# Altium footprint library Pi3.PcbLib: 2 footprints
Each footprint in its own frame and in the unit in brackets; x right, y up, seen from the top. Pads: shape width x height; smd on the part's side, far side on the other; paste and mask are expansions set on the pad; w line width, h text height; cw(c..) or ccw(c..) is an arc to the next point about the centre after c.
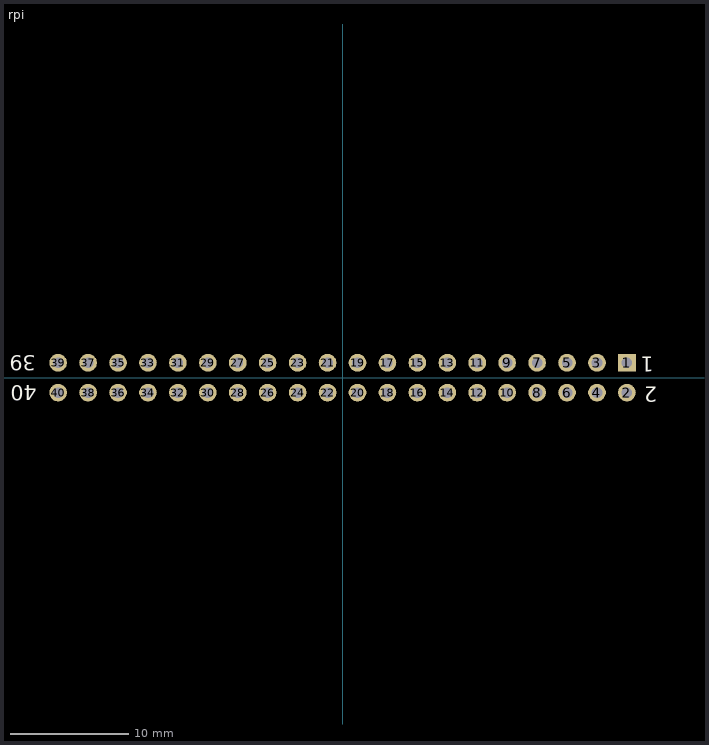
[diagram p0: the footprints below, top view; thin cyan lines are the x and y axes]

## PCBComponent_1 [mm]

## rpi [mm]
pads (40):
  rect 1.5x1.5 hole 0.9: 1(24.13,1.27)
  round 1.5 hole 0.9: 2(24.13,-1.27) 3(21.59,1.27) 4(21.59,-1.27) 5(19.05,1.27) 6(19.05,-1.27) 7(16.51,1.27) 8(16.51,-1.27) 9(13.97,1.27) 10(13.97,-1.27) 11(11.43,1.27) 12(11.43,-1.27) 13(8.89,1.27) 14(8.89,-1.27) 15(6.35,1.27) 16(6.35,-1.27) 17(3.81,1.27) 18(3.81,-1.27) 19(1.27,1.27) 20(1.27,-1.27) 21(-1.27,1.27) 22(-1.27,-1.27) 23(-3.81,1.27) 24(-3.81,-1.27) 25(-6.35,1.27) 26(-6.35,-1.27) 27(-8.89,1.27) 28(-8.89,-1.27) 29(-11.43,1.27) 30(-11.43,-1.27) 31(-13.97,1.27) 32(-13.97,-1.27) 33(-16.51,1.27) 34(-16.51,-1.27) 35(-19.05,1.27) 36(-19.05,-1.27) 37(-21.59,1.27) 38(-21.59,-1.27) 39(-24.13,1.27) 40(-24.13,-1.27)
Top Overlay:
  text "40" at -25.95,-0.65 h1.27
  text "39" at -26.025,1.9 h1.27
  text "1" at 26.4,1.775 h1.27
  text "2" at 26.7,-0.775 h1.27
Bottom Overlay:
  lines w0.2: -25.527,-2.54 -25.527,2.54 25.4,2.54 25.4,-2.54 -25.527,-2.54
3D body "female_header_a-bl254-dg-z32d.stp": height 8.5, standoff -3.2, extent -15.365,-2.627 25.525,2.373
3D body "female_header_a-bl254-dg-z32d.stp": height 8.5, standoff -3.2, extent -25.525,-2.625 15.365,2.375